# Altium footprint library Connector_IDC.PcbLib: 182 footprints (part 12 of 12)
Each footprint in its own frame and in the unit in brackets; x right, y up, seen from the top. Pads: shape width x height; smd on the part's side, far side on the other; paste and mask are expansions set on the pad; w line width, h text height; cw(c..) or ccw(c..) is an arc to the next point about the centre after c.
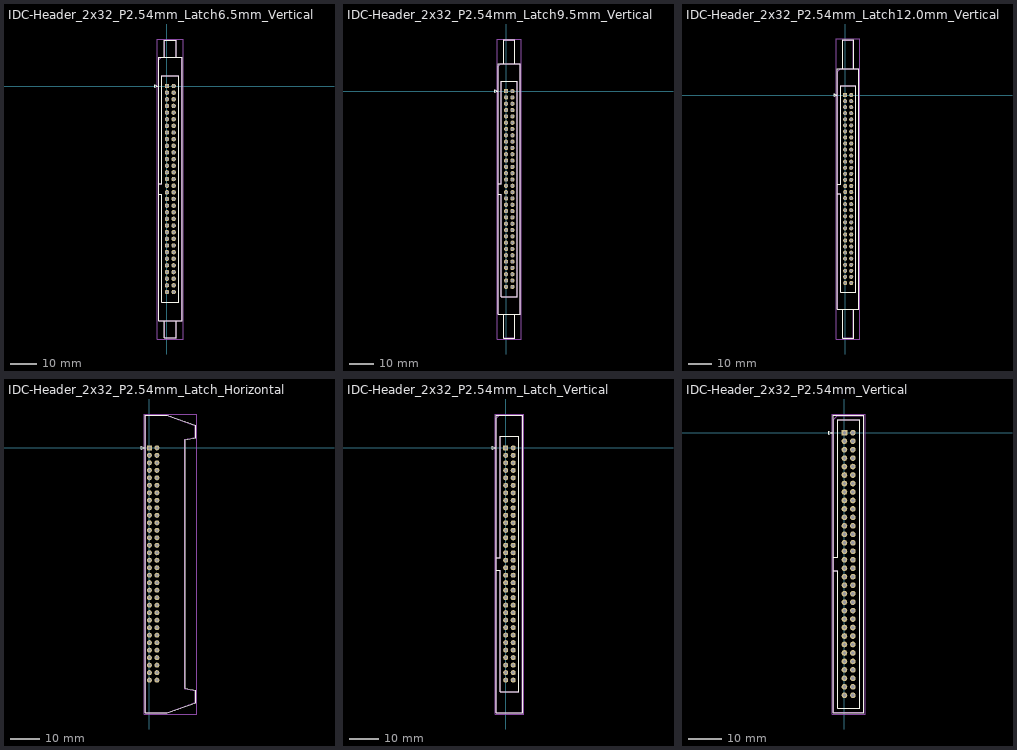
[diagram p11: the footprints below, top view; thin cyan lines are the x and y axes]

## IDC-Header_2x32_P2.54mm_Latch6.5mm_Vertical [mm]
pads (64):
  rrect15% 1.7x1.7 hole 1: 1(0,0)
  round 1.7 hole 1: 2(2.54,0) 3(0,-2.54) 4(2.54,-2.54) 5(0,-5.08) 6(2.54,-5.08) 7(0,-7.62) 8(2.54,-7.62) 9(0,-10.16) 10(2.54,-10.16) 11(0,-12.7) 12(2.54,-12.7) 13(0,-15.24) 14(2.54,-15.24) 15(0,-17.78) 16(2.54,-17.78) 17(0,-20.32) 18(2.54,-20.32) 19(0,-22.86) 20(2.54,-22.86) 21(0,-25.4) 22(2.54,-25.4) 23(0,-27.94) 24(2.54,-27.94) 25(0,-30.48) 26(2.54,-30.48) 27(0,-33.02) 28(2.54,-33.02) 29(0,-35.56) 30(2.54,-35.56) 31(0,-38.1) 32(2.54,-38.1) 33(0,-40.64) 34(2.54,-40.64) 35(0,-43.18) 36(2.54,-43.18) 37(0,-45.72) 38(2.54,-45.72) 39(0,-48.26) 40(2.54,-48.26) 41(0,-50.8) 42(2.54,-50.8) 43(0,-53.34) 44(2.54,-53.34) 45(0,-55.88) 46(2.54,-55.88) 47(0,-58.42) 48(2.54,-58.42) 49(0,-60.96) 50(2.54,-60.96) 51(0,-63.5) 52(2.54,-63.5) 53(0,-66.04) 54(2.54,-66.04) 55(0,-68.58) 56(2.54,-68.58) 57(0,-71.12) 58(2.54,-71.12) 59(0,-73.66) 60(2.54,-73.66) 61(0,-76.2) 62(2.54,-76.2) 63(0,-78.74) 64(2.54,-78.74)
F.SilkS:
  lines w0.254: -3.24,-41.42 -1.93,-41.42 -1.93,-82.66 4.47,-82.66 4.47,3.92 -1.93,3.92 -1.93,-37.32 -3.24,-37.32 ; -1.04,-89.82 -1.04,-96.32 3.58,-96.32 3.58,-89.82 ; -1.04,11.08 -1.04,17.58 3.58,17.58 3.58,11.08 ; -4.63,-0.5 -3.63,0 -4.63,0.5 -4.63,-0.5 ; -3.24,-89.82 5.78,-89.82 5.78,11.08 -3.24,11.08 -3.24,-89.82
Top Assembly:
  lines w0.254: -3.13,-41.42 -1.93,-41.42 -1.93,-82.66 4.47,-82.66 4.47,3.92 -1.93,3.92 -1.93,-37.32 -3.13,-37.32 ; -0.93,-89.71 -0.93,-96.21 3.47,-96.21 3.47,-89.71 ; -0.93,10.97 -0.93,17.47 3.47,17.47 3.47,10.97 ; -3.13,-89.71 5.67,-89.71 5.67,10.97 -2.13,10.97 -3.13,9.97 -3.13,-89.71
  text "'.Designator'" at 2.11,-43.417 h1
Top Courtyard:
  lines w0.254: -3.63,-96.71 6.17,-96.71 6.17,17.97 -3.63,17.97 -3.63,-96.71
Top Designator:
  text ".Designator" at -6.848,-39.878 h1.52

## IDC-Header_2x32_P2.54mm_Latch9.5mm_Vertical [mm]
pads (64):
  rrect15% 1.7x1.7 hole 1: 1(0,0)
  round 1.7 hole 1: 2(2.54,0) 3(0,-2.54) 4(2.54,-2.54) 5(0,-5.08) 6(2.54,-5.08) 7(0,-7.62) 8(2.54,-7.62) 9(0,-10.16) 10(2.54,-10.16) 11(0,-12.7) 12(2.54,-12.7) 13(0,-15.24) 14(2.54,-15.24) 15(0,-17.78) 16(2.54,-17.78) 17(0,-20.32) 18(2.54,-20.32) 19(0,-22.86) 20(2.54,-22.86) 21(0,-25.4) 22(2.54,-25.4) 23(0,-27.94) 24(2.54,-27.94) 25(0,-30.48) 26(2.54,-30.48) 27(0,-33.02) 28(2.54,-33.02) 29(0,-35.56) 30(2.54,-35.56) 31(0,-38.1) 32(2.54,-38.1) 33(0,-40.64) 34(2.54,-40.64) 35(0,-43.18) 36(2.54,-43.18) 37(0,-45.72) 38(2.54,-45.72) 39(0,-48.26) 40(2.54,-48.26) 41(0,-50.8) 42(2.54,-50.8) 43(0,-53.34) 44(2.54,-53.34) 45(0,-55.88) 46(2.54,-55.88) 47(0,-58.42) 48(2.54,-58.42) 49(0,-60.96) 50(2.54,-60.96) 51(0,-63.5) 52(2.54,-63.5) 53(0,-66.04) 54(2.54,-66.04) 55(0,-68.58) 56(2.54,-68.58) 57(0,-71.12) 58(2.54,-71.12) 59(0,-73.66) 60(2.54,-73.66) 61(0,-76.2) 62(2.54,-76.2) 63(0,-78.74) 64(2.54,-78.74)
F.SilkS:
  lines w0.254: -3.24,-41.42 -1.93,-41.42 -1.93,-82.66 4.47,-82.66 4.47,3.92 -1.93,3.92 -1.93,-37.32 -3.24,-37.32 ; -1.04,-89.82 -1.04,-99.32 3.58,-99.32 3.58,-89.82 ; -1.04,11.08 -1.04,20.58 3.58,20.58 3.58,11.08 ; -4.63,-0.5 -3.63,0 -4.63,0.5 -4.63,-0.5 ; -3.24,-89.82 5.78,-89.82 5.78,11.08 -3.24,11.08 -3.24,-89.82
Top Assembly:
  lines w0.254: -3.13,-41.42 -1.93,-41.42 -1.93,-82.66 4.47,-82.66 4.47,3.92 -1.93,3.92 -1.93,-37.32 -3.13,-37.32 ; -0.93,-89.71 -0.93,-99.21 3.47,-99.21 3.47,-89.71 ; -0.93,10.97 -0.93,20.47 3.47,20.47 3.47,10.97 ; -3.13,-89.71 5.67,-89.71 5.67,10.97 -2.13,10.97 -3.13,9.97 -3.13,-89.71
  text "'.Designator'" at 2.11,-43.417 h1
Top Courtyard:
  lines w0.254: -3.63,-99.71 6.17,-99.71 6.17,20.97 -3.63,20.97 -3.63,-99.71
Top Designator:
  text ".Designator" at -6.848,-39.878 h1.52

## IDC-Header_2x32_P2.54mm_Latch12.0mm_Vertical [mm]
pads (64):
  rrect15% 1.7x1.7 hole 1: 1(0,0)
  round 1.7 hole 1: 2(2.54,0) 3(0,-2.54) 4(2.54,-2.54) 5(0,-5.08) 6(2.54,-5.08) 7(0,-7.62) 8(2.54,-7.62) 9(0,-10.16) 10(2.54,-10.16) 11(0,-12.7) 12(2.54,-12.7) 13(0,-15.24) 14(2.54,-15.24) 15(0,-17.78) 16(2.54,-17.78) 17(0,-20.32) 18(2.54,-20.32) 19(0,-22.86) 20(2.54,-22.86) 21(0,-25.4) 22(2.54,-25.4) 23(0,-27.94) 24(2.54,-27.94) 25(0,-30.48) 26(2.54,-30.48) 27(0,-33.02) 28(2.54,-33.02) 29(0,-35.56) 30(2.54,-35.56) 31(0,-38.1) 32(2.54,-38.1) 33(0,-40.64) 34(2.54,-40.64) 35(0,-43.18) 36(2.54,-43.18) 37(0,-45.72) 38(2.54,-45.72) 39(0,-48.26) 40(2.54,-48.26) 41(0,-50.8) 42(2.54,-50.8) 43(0,-53.34) 44(2.54,-53.34) 45(0,-55.88) 46(2.54,-55.88) 47(0,-58.42) 48(2.54,-58.42) 49(0,-60.96) 50(2.54,-60.96) 51(0,-63.5) 52(2.54,-63.5) 53(0,-66.04) 54(2.54,-66.04) 55(0,-68.58) 56(2.54,-68.58) 57(0,-71.12) 58(2.54,-71.12) 59(0,-73.66) 60(2.54,-73.66) 61(0,-76.2) 62(2.54,-76.2) 63(0,-78.74) 64(2.54,-78.74)
F.SilkS:
  lines w0.254: -3.24,-41.42 -1.93,-41.42 -1.93,-82.66 4.47,-82.66 4.47,3.92 -1.93,3.92 -1.93,-37.32 -3.24,-37.32 ; -1.04,-89.82 -1.04,-101.82 3.58,-101.82 3.58,-89.82 ; -1.04,11.08 -1.04,23.08 3.58,23.08 3.58,11.08 ; -4.63,-0.5 -3.63,0 -4.63,0.5 -4.63,-0.5 ; -3.24,-89.82 5.78,-89.82 5.78,11.08 -3.24,11.08 -3.24,-89.82
Top Assembly:
  lines w0.254: -3.13,-41.42 -1.93,-41.42 -1.93,-82.66 4.47,-82.66 4.47,3.92 -1.93,3.92 -1.93,-37.32 -3.13,-37.32 ; -0.93,-89.71 -0.93,-101.71 3.47,-101.71 3.47,-89.71 ; -0.93,10.97 -0.93,22.97 3.47,22.97 3.47,10.97 ; -3.13,-89.71 5.67,-89.71 5.67,10.97 -2.13,10.97 -3.13,9.97 -3.13,-89.71
  text "'.Designator'" at 2.11,-43.417 h1
Top Courtyard:
  lines w0.254: -3.63,-102.21 6.17,-102.21 6.17,23.47 -3.63,23.47 -3.63,-102.21
Top Designator:
  text ".Designator" at -6.848,-39.878 h1.52

## IDC-Header_2x32_P2.54mm_Latch_Horizontal [mm]
pads (64):
  rrect15% 1.7x1.7 hole 1: 1(0,0)
  round 1.7 hole 1: 2(2.54,0) 3(0,-2.54) 4(2.54,-2.54) 5(0,-5.08) 6(2.54,-5.08) 7(0,-7.62) 8(2.54,-7.62) 9(0,-10.16) 10(2.54,-10.16) 11(0,-12.7) 12(2.54,-12.7) 13(0,-15.24) 14(2.54,-15.24) 15(0,-17.78) 16(2.54,-17.78) 17(0,-20.32) 18(2.54,-20.32) 19(0,-22.86) 20(2.54,-22.86) 21(0,-25.4) 22(2.54,-25.4) 23(0,-27.94) 24(2.54,-27.94) 25(0,-30.48) 26(2.54,-30.48) 27(0,-33.02) 28(2.54,-33.02) 29(0,-35.56) 30(2.54,-35.56) 31(0,-38.1) 32(2.54,-38.1) 33(0,-40.64) 34(2.54,-40.64) 35(0,-43.18) 36(2.54,-43.18) 37(0,-45.72) 38(2.54,-45.72) 39(0,-48.26) 40(2.54,-48.26) 41(0,-50.8) 42(2.54,-50.8) 43(0,-53.34) 44(2.54,-53.34) 45(0,-55.88) 46(2.54,-55.88) 47(0,-58.42) 48(2.54,-58.42) 49(0,-60.96) 50(2.54,-60.96) 51(0,-63.5) 52(2.54,-63.5) 53(0,-66.04) 54(2.54,-66.04) 55(0,-68.58) 56(2.54,-68.58) 57(0,-71.12) 58(2.54,-71.12) 59(0,-73.66) 60(2.54,-73.66) 61(0,-76.2) 62(2.54,-76.2) 63(0,-78.74) 64(2.54,-78.74)
F.SilkS:
  lines w0.254: -2.74,-0.5 -1.74,0 -2.74,0.5 -2.74,-0.5 ; -1.35,-89.82 5.98,-89.82 15.64,-86.35 15.64,-82.16 12.08,-81.53 12.08,2.79 15.64,3.42 15.64,7.61 5.98,11.08 -1.35,11.08 -1.35,-89.82
Top Assembly:
  lines w0.254: -1.24,-89.71 5.87,-89.71 15.53,-86.24 15.53,-82.27 11.97,-81.64 11.97,2.9 15.53,3.53 15.53,7.5 5.87,10.97 -1.24,10.97 -1.24,-89.71
  text "'.Designator'" at 7.985,-43.417 h1
Top Courtyard:
  lines w0.254: -1.74,-90.21 16.03,-90.21 16.03,11.47 -1.74,11.47 -1.74,-90.21
Top Designator:
  text ".Designator" at -0.973,-39.878 h1.52

## IDC-Header_2x32_P2.54mm_Latch_Vertical [mm]
pads (64):
  rrect15% 1.7x1.7 hole 1: 1(0,0)
  round 1.7 hole 1: 2(2.54,0) 3(0,-2.54) 4(2.54,-2.54) 5(0,-5.08) 6(2.54,-5.08) 7(0,-7.62) 8(2.54,-7.62) 9(0,-10.16) 10(2.54,-10.16) 11(0,-12.7) 12(2.54,-12.7) 13(0,-15.24) 14(2.54,-15.24) 15(0,-17.78) 16(2.54,-17.78) 17(0,-20.32) 18(2.54,-20.32) 19(0,-22.86) 20(2.54,-22.86) 21(0,-25.4) 22(2.54,-25.4) 23(0,-27.94) 24(2.54,-27.94) 25(0,-30.48) 26(2.54,-30.48) 27(0,-33.02) 28(2.54,-33.02) 29(0,-35.56) 30(2.54,-35.56) 31(0,-38.1) 32(2.54,-38.1) 33(0,-40.64) 34(2.54,-40.64) 35(0,-43.18) 36(2.54,-43.18) 37(0,-45.72) 38(2.54,-45.72) 39(0,-48.26) 40(2.54,-48.26) 41(0,-50.8) 42(2.54,-50.8) 43(0,-53.34) 44(2.54,-53.34) 45(0,-55.88) 46(2.54,-55.88) 47(0,-58.42) 48(2.54,-58.42) 49(0,-60.96) 50(2.54,-60.96) 51(0,-63.5) 52(2.54,-63.5) 53(0,-66.04) 54(2.54,-66.04) 55(0,-68.58) 56(2.54,-68.58) 57(0,-71.12) 58(2.54,-71.12) 59(0,-73.66) 60(2.54,-73.66) 61(0,-76.2) 62(2.54,-76.2) 63(0,-78.74) 64(2.54,-78.74)
F.SilkS:
  lines w0.254: -3.24,-41.42 -1.93,-41.42 -1.93,-82.66 4.47,-82.66 4.47,3.92 -1.93,3.92 -1.93,-37.32 -3.24,-37.32 ; -4.63,-0.5 -3.63,0 -4.63,0.5 -4.63,-0.5 ; -3.24,-89.82 5.78,-89.82 5.78,11.08 -3.24,11.08 -3.24,-89.82
Top Assembly:
  lines w0.254: -3.13,-41.42 -1.93,-41.42 -1.93,-82.66 4.47,-82.66 4.47,3.92 -1.93,3.92 -1.93,-37.32 -3.13,-37.32 ; -3.13,-89.71 5.67,-89.71 5.67,10.97 -2.13,10.97 -3.13,9.97 -3.13,-89.71
  text "'.Designator'" at 2.11,-43.417 h1
Top Courtyard:
  lines w0.254: -3.63,-90.21 6.17,-90.21 6.17,11.47 -3.63,11.47 -3.63,-90.21
Top Designator:
  text ".Designator" at -6.848,-39.878 h1.52

## IDC-Header_2x32_P2.54mm_Vertical [mm]
pads (64):
  rrect15% 1.7x1.7 hole 1: 1(0,0)
  round 1.7 hole 1: 2(2.54,0) 3(0,-2.54) 4(2.54,-2.54) 5(0,-5.08) 6(2.54,-5.08) 7(0,-7.62) 8(2.54,-7.62) 9(0,-10.16) 10(2.54,-10.16) 11(0,-12.7) 12(2.54,-12.7) 13(0,-15.24) 14(2.54,-15.24) 15(0,-17.78) 16(2.54,-17.78) 17(0,-20.32) 18(2.54,-20.32) 19(0,-22.86) 20(2.54,-22.86) 21(0,-25.4) 22(2.54,-25.4) 23(0,-27.94) 24(2.54,-27.94) 25(0,-30.48) 26(2.54,-30.48) 27(0,-33.02) 28(2.54,-33.02) 29(0,-35.56) 30(2.54,-35.56) 31(0,-38.1) 32(2.54,-38.1) 33(0,-40.64) 34(2.54,-40.64) 35(0,-43.18) 36(2.54,-43.18) 37(0,-45.72) 38(2.54,-45.72) 39(0,-48.26) 40(2.54,-48.26) 41(0,-50.8) 42(2.54,-50.8) 43(0,-53.34) 44(2.54,-53.34) 45(0,-55.88) 46(2.54,-55.88) 47(0,-58.42) 48(2.54,-58.42) 49(0,-60.96) 50(2.54,-60.96) 51(0,-63.5) 52(2.54,-63.5) 53(0,-66.04) 54(2.54,-66.04) 55(0,-68.58) 56(2.54,-68.58) 57(0,-71.12) 58(2.54,-71.12) 59(0,-73.66) 60(2.54,-73.66) 61(0,-76.2) 62(2.54,-76.2) 63(0,-78.74) 64(2.54,-78.74)
F.SilkS:
  lines w0.254: -3.29,-41.42 -1.98,-41.42 -1.98,-82.65 4.52,-82.65 4.52,3.91 -1.98,3.91 -1.98,-37.32 -3.29,-37.32 ; -4.68,-0.5 -3.68,0 -4.68,0.5 -4.68,-0.5 ; -3.29,-83.95 5.83,-83.95 5.83,5.21 -3.29,5.21 -3.29,-83.95
Top Assembly:
  lines w0.254: -3.18,-41.42 -1.98,-41.42 -1.98,-82.65 4.52,-82.65 4.52,3.91 -1.98,3.91 -1.98,-37.32 -3.18,-37.32 ; -3.18,-83.84 5.72,-83.84 5.72,5.1 -2.18,5.1 -3.18,4.1 -3.18,-83.84
  text "'.Designator'" at 2.11,-43.417 h1
Top Courtyard:
  lines w0.254: -3.68,-84.34 6.22,-84.34 6.22,5.6 -3.68,5.6 -3.68,-84.34
Top Designator:
  text ".Designator" at -6.848,-39.878 h1.52